# Altium footprint library Voltage_Regulators_Linear.PcbLib: 3 footprints
Each footprint in its own frame and in the unit in brackets; x right, y up, seen from the top. Pads: shape width x height; smd on the part's side, far side on the other; paste and mask are expansions set on the pad; w line width, h text height; cw(c..) or ccw(c..) is an arc to the next point about the centre after c.
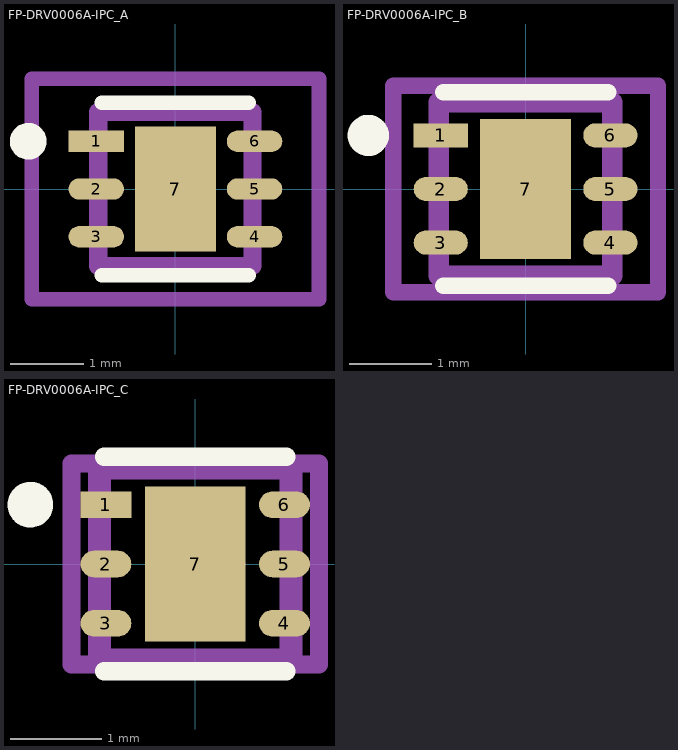
[diagram p0: the footprints below, top view; thin cyan lines are the x and y axes]

## FP-DRV0006A-IPC_A [mm]
pads (7):
  rect 0.756x0.292 smd paste+0 mask+0: 1(-1.078,0.65)
  rrect100% 0.756x0.292 smd paste+0 mask+0: 2(-1.078,0) 3(-1.078,-0.65) 4(1.078,-0.65) 5(1.078,0) 6(1.078,0.65)
  rect 1.1x1.7 smd paste-1000 mask+0: 7(0,0)
Top Overlay:
  circle w0.25: c-2.006,0.65 r0.125
  lines w0.2: -1,-1.175 1,-1.175 ; -1,1.175 1,1.175
Top Paste:
  rectangle: -0.308,-0.608 0.308,0.608
Top Assembly:
  lines w0.2: -1.956,-1.5 1.956,-1.5 1.956,1.5 -1.956,1.5 -1.956,-1.5
Top Component Center:
  lines w0.1: -0.5,0 0.5,0 ; 0,-0.5 0,0.5
Top Component Outline:
  lines w0.25: -1.05,-1.05 -1.05,1.05 1.05,1.05 1.05,-1.05 -1.05,-1.05
Top Courtyard:
  lines w0.1: -1.956,-1.5 1.956,-1.5 1.956,1.5 -1.956,1.5 -1.956,-1.5
Top Designator:
  text ".Designator" at -7.63,-0.521 h1.52
3D body "IC_Texas_Instruments_TPS7A2501DRVR_eec.STEP": height 0.25, standoff 0, extent -1.956,-1.5 1.956,1.5

## FP-DRV0006A-IPC_B [mm]
pads (7):
  rect 0.656x0.292 smd paste+0 mask+0: 1(-1.028,0.65)
  rrect100% 0.656x0.292 smd paste+0 mask+0: 2(-1.028,0) 3(-1.028,-0.65) 4(1.028,-0.65) 5(1.028,0) 6(1.028,0.65)
  rect 1.1x1.7 smd paste-1000 mask+0: 7(0,0)
Top Overlay:
  circle w0.25: c-1.906,0.65 r0.125
  lines w0.2: -1,-1.175 1,-1.175 ; -1,1.175 1,1.175
Top Paste:
  rectangle: -0.308,-0.608 0.308,0.608
Top Assembly:
  lines w0.2: -1.606,-1.25 -1.606,1.25 1.606,1.25 1.606,-1.25 -1.606,-1.25
Top Component Center:
  lines w0.1: -0.5,0 0.5,0 ; 0,-0.5 0,0.5
Top Component Outline:
  lines w0.25: -1.05,-1.05 1.05,-1.05 1.05,1.05 -1.05,1.05 -1.05,-1.05
Top Courtyard:
  lines w0.1: -1.606,-1.25 -1.606,1.25 1.606,1.25 1.606,-1.25 -1.606,-1.25
Top Designator:
  text ".Designator" at -7.63,-0.521 h1.52
3D body "IC_Texas_Instruments_TPS7A2501DRVR_eec.STEP": height 0.25, standoff 0, extent -1.606,-1.25 1.606,1.25

## FP-DRV0006A-IPC_C [mm]
pads (7):
  rect 0.556x0.292 smd paste+0 mask+0: 1(-0.978,0.65)
  rrect100% 0.556x0.292 smd paste+0 mask+0: 2(-0.978,0) 3(-0.978,-0.65) 4(0.978,-0.65) 5(0.978,0) 6(0.978,0.65)
  rect 1.1x1.7 smd paste-1000 mask+0: 7(0,0)
Top Overlay:
  circle w0.25: c-1.806,0.65 r0.125
  lines w0.2: -1,-1.175 1,-1.175 ; -1,1.175 1,1.175
Top Paste:
  rectangle: -0.308,-0.608 0.308,0.608
Top Assembly:
  lines w0.2: -1.356,-1.1 -1.356,1.1 1.356,1.1 1.356,-1.1 -1.356,-1.1
Top Component Center:
  lines w0.1: -0.5,0 0.5,0 ; 0,-0.5 0,0.5
Top Component Outline:
  lines w0.25: -1.05,-1.05 -1.05,1.05 1.05,1.05 1.05,-1.05 -1.05,-1.05
Top Courtyard:
  lines w0.1: -1.356,-1.1 1.356,-1.1 1.356,1.1 -1.356,1.1 -1.356,-1.1
Top Designator:
  text ".Designator" at -7.63,-0.521 h1.52
3D body "IC_Texas_Instruments_TPS7A2501DRVR_eec.STEP": height 0.25, standoff 0, extent -1.356,-1.1 1.356,1.1